# EAGLE library part 6P_0.5MM_ZIF_CONN (library CYCFI_Con)
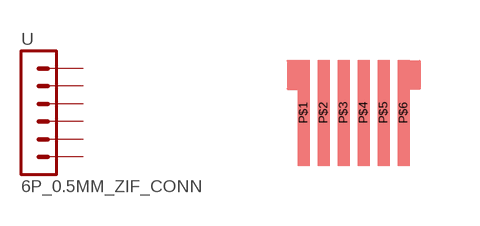
[diagram p18: symbol with the pads of 6P-0.5MMPITCH-ZIF; footprint 6P-0.5MMPITCH-ZIF]

Designator prefix -

## 6P_0.5MM_ZIF_CONN  [6P-0.5MMPITCH-ZIF]
P$1  1  pas
P$2  2  pas
P$3  3  pas
P$4  4  pas
P$5  5  pas
P$6  6  pas

## Footprint 6P-0.5MMPITCH-ZIF (pad centres in mm)
smd 0.3 x 2.65: P$1 -1.25,0; P$2 -0.75,0; P$3 -0.25,0; P$4 0.25,0; P$5 0.75,0; P$6 1.25,0